# EAGLE library part WIRELESS-NRF24L01-PA-EXT (library 1459411900832-nrf24l01plus)
2.4 GHz Wireless Module based on NRF24L01 chip with preamplifier and external antenna
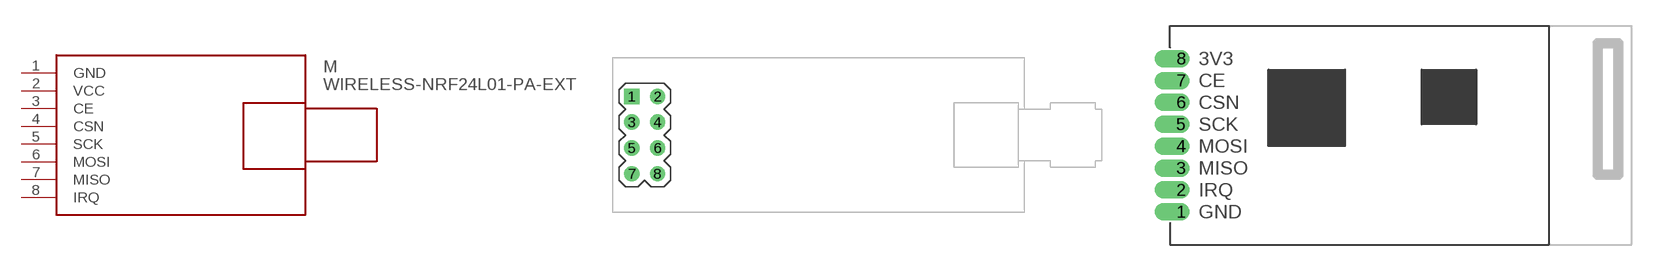
[diagram p1: symbol with the pads of WIRELESS-NRD24L01-PA-EXT; footprints WIRELESS-NRD24L01-PA-EXT, WIRELESS-NRF24L01-PA-SMD]

Designator prefix M

## WIRELESS-NRF24L01-PA-EXTSMA-THR  [WIRELESS-NRD24L01-PA-EXT]
1  GND  pwr
2  VCC  pwr
3  CE
4  CSN
5  SCK
6  MOSI
7  MISO
8  IRQ

## WIRELESS-NRF24L01-PA-EXTSMD  [WIRELESS-NRF24L01-PA-SMD]
1  GND  pwr
2  IRQ
3  MISO
4  MOSI
5  SCK
6  CSN
7  CE
8  VCC  pwr

## Footprint WIRELESS-NRD24L01-PA-EXT (pad centres in mm)
2.4 GHz Wireless Module based on NRF24L01 chip with preamplifier and external antenna
drill 1 square: 1 -17.755,3.81
drill 1: 2 -15.215,3.81; 3 -17.755,1.27; 4 -15.215,1.27; 5 -17.755,-1.27; 6 -15.215,-1.27; 7 -17.755,-3.81; 8 -15.215,-3.81

## Footprint WIRELESS-NRF24L01-PA-SMD (pad centres in mm)
drill 0.5 pad 1.016 offset: 1 0.635,1.905; 2 0.635,3.175; 3 0.635,4.445; 4 0.635,5.715; 5 0.635,6.985; 6 0.635,8.255; 7 0.635,9.525; 8 0.635,10.795